# Altium schematic symbol library IRRecive.SchLib: 1 symbol
Pins are listed as number, name and electrical type; pins without a type are passive.

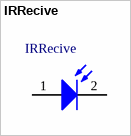
[diagram p0: symbol IRRecive]

## IRRecive
designator IRRecive  (value not drawn)
footprint IRRecive
pins: 1 A, 2 K